# Altium footprint library Voltage Regulators.PcbLib: 25 footprints (part 2 of 2)
Each footprint in its own frame and in the unit in brackets; x right, y up, seen from the top. Pads: shape width x height; smd on the part's side, far side on the other; paste and mask are expansions set on the pad; w line width, h text height; cw(c..) or ccw(c..) is an arc to the next point about the centre after c.
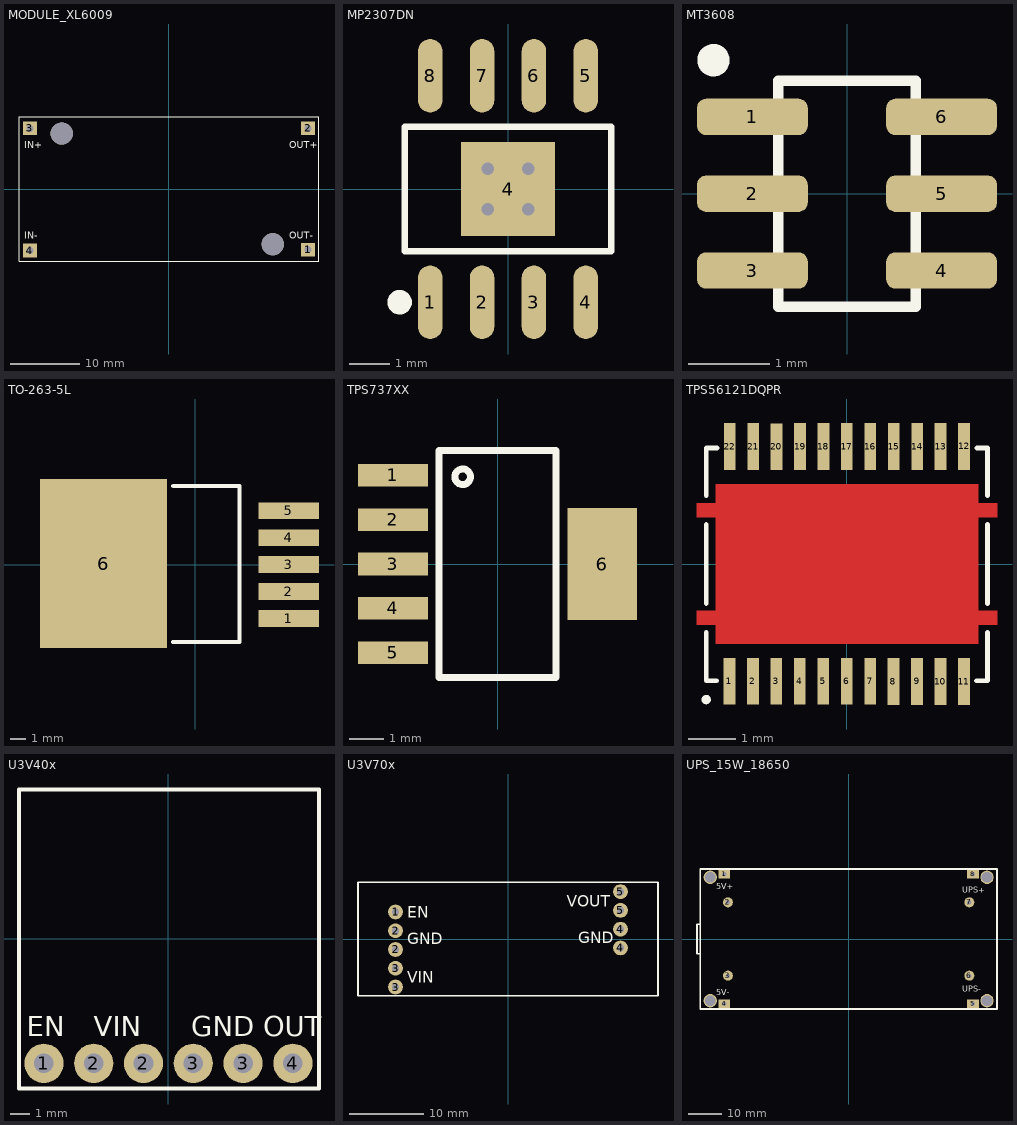
[diagram p1: the footprints below, top view; thin cyan lines are the x and y axes]

## MODULE_XL6009 [mm] "MODULE BUCK STEP UP 5A 44x21mm"
pads (6):
  rect 2x2 hole 1: 1(20.066,-8.7) 2(20.066,8.826) 3(-20.066,8.826) 4(-20.066,-8.826)
  round 3.2 hole 3.2 unplated: ""(-15.494,8.064) ""(14.986,-7.909)
Top Overlay:
  lines w0.152: -21.653,-10.351 21.654,-10.351 21.654,10.477 -21.653,10.477 -21.653,-10.351
  text "IN+" at -20.879,5.982 h1.02
  text "OUT-" at 17.348,-7.099 h1.02
  text "OUT+" at 17.348,5.982 h1.02
  text "IN-" at -20.879,-7.099 h1.02
3D body "MODULE_XL6009.SLDPRT": height 13.4, standoff -1.1, extent -21.7,-10.336 21.7,10.463

## MP2307DN [mm] "SOIC8N"
pads (9):
  oval 0.6x1.8 smd paste+0 mask+0.051: 1(-1.905,-2.773) 2(-0.635,-2.773) 3(0.635,-2.773) 4(1.905,-2.773) 5(1.905,2.773) 6(0.635,2.773) 7(-0.635,2.773) 8(-1.905,2.773)
  rect 2.29x2.29 smd paste+0 mask+0.051: 4(0,0)
via -0.5,0.5 diameter 0.61 hole 0.305
via -0.5,-0.5 diameter 0.61 hole 0.305
via 0.5,-0.5 diameter 0.61 hole 0.305
via 0.5,0.5 diameter 0.61 hole 0.305
Top Overlay:
  circle w0.3: c-2.652,-2.772 r0.15
  lines w0.152: -2.526,-1.521 2.526,-1.521 2.526,1.521 -2.526,1.521 -2.526,-1.521
3D body "MP2307DN.STEP": height 1.7, standoff 0, extent -2.451,-2.997 2.451,2.997

## MT3608 [mm] "SOT-23-6"
pads (6):
  rrect50% 1.37x0.45 smd: 1(-1.17,0.95) 2(-1.17,0) 3(-1.17,-0.95) 4(1.17,-0.95) 5(1.17,0) 6(1.17,0.95)
Top Overlay:
  circle w0.2: c-1.651,1.651 r0.1
  lines w0.127: -0.85,-1.397 0.85,-1.397 0.85,1.397 -0.85,1.397 -0.85,-1.397
3D body "step_temp.STEP": height 1.45, standoff 0, extent -1.4,-1.45 1.4,1.45

## TO-263-5L [mm] "TO-263-5L"
pads (6):
  rect 3.8x1.069 smd: 1(5.907,-3.404) 2(5.907,-1.702) 3(5.907,0) 4(5.907,1.701) 5(5.907,3.403)
  rect 8x10.66 smd: 6(-5.782,0.064)
Top Overlay:
  lines w0.254: -1.397,-4.885 2.794,-4.885 2.794,4.953 -1.385,4.953
3D body "TO263-5L.STEP": height 4.78, standoff -0.02, extent -8.842,-5 6.828,5

## TPS737XX [mm] "SOT223-6"
pads (6):
  rect 2x0.65 smd: 1(-3,2.54) 2(-3,1.27) 3(-3,0) 4(-3,-1.27) 5(-3,-2.54)
  rect 2x3.2 smd: 6(3,0)
Top Overlay:
  circle w0.2: c-1,2.5 r0.224
  lines w0.2: -1.675,-3.25 -1.675,3.25 1.675,3.25 1.675,-3.25 -1.675,-3.25
3D body "TPS73733.STEP": height 1.8, standoff 0, extent -3.403,-3.25 3.657,3.25

## TPS56121DQPR [mm] "LSON-CLIP-22-EP(5x6)"
pads (22):
  rect 0.25x1 smd: 1(-2.502,-2.502) 2(-2.002,-2.502) 3(-1.502,-2.502) 4(-1.002,-2.502) 5(-0.502,-2.502) 6(-0.002,-2.502) 7(0.498,-2.502) 8(0.996,-2.509) 9(1.5,-2.506) 10(1.998,-2.508) 11(2.498,-2.508) 12(2.502,2.509) 13(2.001,2.505) 14(1.501,2.504) 15(1.002,2.504) 16(0.501,2.504) 17(0.002,2.505) 18(-0.498,2.505) 19(-0.998,2.505) 20(-1.5,2.502) 21(-1.998,2.503) 22(-2.498,2.505)
Top Layer:
  region: -2.795,-1.6 -2.795,-1.3 -3.195,-1.3 -3.195,-1 -2.795,-1 -2.795,1 -3.195,1 -3.195,1.3 -2.795,1.3 -2.795,1.7 2.805,1.7 2.805,1.3 3.205,1.3 3.205,1 2.805,1 2.805,-1 3.205,-1 3.205,-1.3 2.805,-1.3 2.805,-1.7 -2.795,-1.7
Top Overlay:
  circle w0.1: c-3,-2.892 r0.05
  lines w0.102: -2.996,-1.455 -2.996,-2.493 -2.772,-2.493 ; -2.996,-0.845 -2.996,0.063 ; -2.996,0.007 -2.996,0.845 ; -2.996,1.455 -2.996,2.476 -2.768,2.476 ; 2.768,-2.493 3.004,-2.493 3.004,-1.455 ; 2.772,2.476 3.004,2.476 3.004,1.455 ; 3.004,-0.845 3.004,0.845
Top Paste:
  region: -2.795,-1.6 -2.795,-1.3 -3.195,-1.3 -3.195,-1 -2.795,-1 -2.795,1 -3.195,1 -3.195,1.3 -2.795,1.3 -2.795,1.7 2.805,1.7 2.805,1.3 3.205,1.3 3.205,1 2.805,1 2.805,-1 3.205,-1 3.205,-1.3 2.805,-1.3 2.805,-1.7 -2.795,-1.7
Top Solder:
  region: -2.795,-1.6 -2.795,-1.3 -3.195,-1.3 -3.195,-1 -2.795,-1 -2.795,1 -3.195,1 -3.195,1.3 -2.795,1.3 -2.795,1.7 2.805,1.7 2.805,1.3 3.205,1.3 3.205,1 2.805,1 2.805,-1 3.205,-1 3.205,-1.3 2.805,-1.3 2.805,-1.7 -2.795,-1.7
3D body "TPS56121DQPR.STEP": height 1.45, standoff -0.05, extent -2.998,-2.495 3.002,2.505

## U3V40x [mm]
pads (6):
  round 2 hole 1 paste-2539.97 mask+0.051: 1(-6.35,-6.35) 2(-3.81,-6.35) 2(-1.27,-6.35) 3(1.27,-6.35) 3(3.81,-6.35) 4(6.35,-6.35)
Top Overlay:
  lines w0.2: -7.621,-7.628 7.683,-7.628 7.683,7.612 -7.621,7.612 -7.621,-7.628
  text "OUT" at 4.838,-4.965 h1.02
  text "EN" at -7.227,-4.965 h1.02
  text "GND" at 1.155,-4.965 h1.02
  text "VIN" at -3.798,-4.965 h1.02
3D body "U3V40x.step": height 5.51, standoff 0, extent -7.557,-7.708 7.683,7.532

## U3V70x [mm]
pads (9):
  round 2 hole 1 paste-2539.97 mask+0.102: 1(-15.22,3.705) 2(-15.22,-1.375) 2(-15.22,1.165) 3(-15.22,-6.455) 3(-15.22,-3.915) 4(15.22,1.375) 4(15.22,-1.165) 5(15.22,3.915) 5(15.22,6.455)
Top Overlay:
  lines w0.254: -20.3,-7.642 20.3,-7.642 20.3,7.725 -20.3,7.725 -20.3,-7.642
  text "EN" at -13.609,2.899 h1.52
  text "GND" at -13.609,-0.657 h1.52
  text "VIN" at -13.609,-5.864 h1.52
  text "GND" at 9.505,-0.53 h1.52
  text "VOUT" at 7.981,4.423 h1.52
3D body "U3V70x.step": height 5.58, standoff 0.1, extent -20.213,-7.515 20.427,7.725

## UPS_15W_18650 [mm]
pads (12):
  rect 3.5x2.5 hole 1.3 paste-2539.97 mask+0.051: 1(-37.3,19.4) 4(-37.3,-19.4) 5(37.3,-19.4) 8(37.3,19.4)
  round 3 hole 1.3 paste-2539.97 mask+0.051: 2(-36.2,11) 3(-36.2,-11) 6(36.199,-11) 7(36.199,11)
  round 4 hole 3.2 unplated paste-2539.97: ""(-41.5,-18.5) ""(-41.5,18.5) ""(41.5,-18.5) ""(41.5,18.5)
Top Overlay:
  lines w0.508: -44.572,4.45 -45.466,4.45 -45.466,-4.45 -44.45,-4.45 ; -44.5,-21 -44.5,21 44.5,21 44.5,-21 -44.5,-21
  text "5V-" at -39.67,-16.892 h1.78
  text "UPS-" at 34.041,-15.892 h1.78
  text "UPS+" at 34.041,13.908 h1.78
  text "5V+" at -39.67,14.908 h1.78
3D body "UPS_15W_18650.x_t": height 6.9, standoff -0.4, extent -45.5,-21 44.5,21